# Altium footprint library Rich Footprints.PcbLib: 155 footprints (part 3 of 10)
Each footprint in its own frame and in the unit in brackets; x right, y up, seen from the top. Pads: shape width x height; smd on the part's side, far side on the other; paste and mask are expansions set on the pad; w line width, h text height; cw(c..) or ccw(c..) is an arc to the next point about the centre after c.
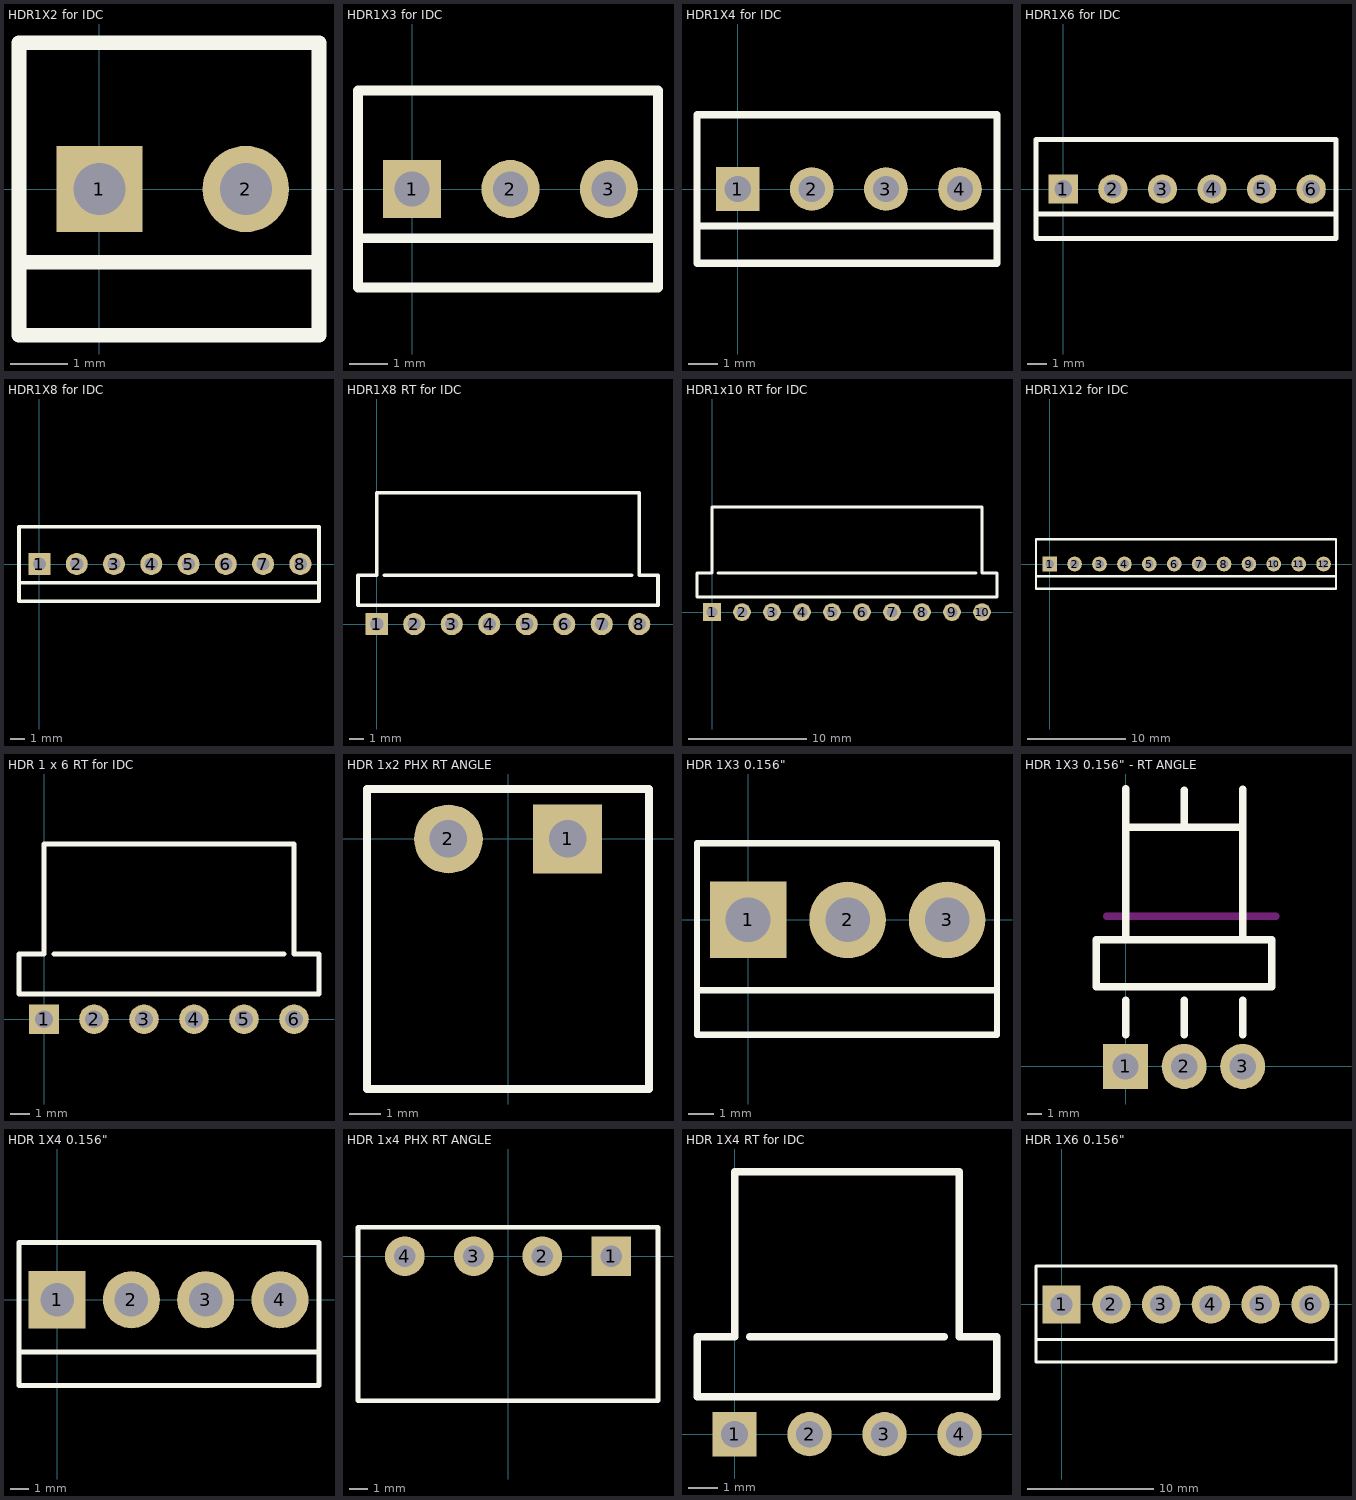
[diagram p2: the footprints below, top view; thin cyan lines are the x and y axes]

## HDR1X2 for IDC [mm] "Connector; Header; 4 Position"
pads (2):
  rect 1.5x1.5 hole 0.9: 1(0,0)
  round 1.5 hole 0.9: 2(2.54,0)
Top Overlay:
  lines w0.254: -1.397,-1.27 3.81,-1.27 ; -1.397,-2.54 3.81,-2.54 3.81,2.54 -1.397,2.54 -1.397,-2.54

## HDR1X3 for IDC [mm] "Connector; Header; 3 Position"
pads (3):
  rect 1.5x1.5 hole 0.9: 1(0,0)
  round 1.5 hole 0.9: 2(2.54,0) 3(5.08,0)
Top Overlay:
  lines w0.254: -1.397,-1.27 6.35,-1.27 ; -1.397,-2.54 6.35,-2.54 6.35,2.54 -1.397,2.54 -1.397,-2.54

## HDR1X4 for IDC [mm] "Connector; Header; 4 Position"
pads (4):
  rect 1.5x1.5 hole 0.9: 1(0,0)
  round 1.5 hole 0.9: 2(2.54,0) 3(5.08,0) 4(7.62,0)
Top Overlay:
  lines w0.254: -1.397,-1.27 8.89,-1.27 ; -1.397,-2.54 8.89,-2.54 8.89,2.54 -1.397,2.54 -1.397,-2.54

## HDR1X6 for IDC [mm] "Connector; Header; 6 Position"
pads (6):
  rect 1.5x1.5 hole 0.9: 1(0,0)
  round 1.5 hole 0.9: 2(2.54,0) 3(5.08,0) 4(7.62,0) 5(10.16,0) 6(12.7,0)
Top Overlay:
  lines w0.254: -1.397,-1.27 13.97,-1.27 ; -1.397,-2.54 -1.397,2.54 13.97,2.54 13.97,-2.54 -1.397,-2.54

## HDR1X8 for IDC [mm] "Connector; Header; 8 Position"
pads (8):
  rect 1.5x1.5 hole 0.9: 1(0,0)
  round 1.5 hole 0.9: 2(2.54,0) 3(5.08,0) 4(7.62,0) 5(10.16,0) 6(12.7,0) 7(15.24,0) 8(17.78,0)
Top Overlay:
  lines w0.254: -1.397,-1.27 19.05,-1.27 ; -1.397,-2.54 19.05,-2.54 19.05,2.54 -1.397,2.54 -1.397,-2.54

## HDR1X8 RT for IDC [mm] "Connector; Header; 8 Position, RT Angle"
pads (8):
  rect 1.5x1.5 hole 0.9: 1(0,0)
  round 1.5 hole 0.9: 2(2.54,0) 3(5.08,0) 4(7.62,0) 5(10.16,0) 6(12.7,0) 7(15.24,0) 8(17.78,0)
Top Overlay:
  lines w0.254: 0.508,3.302 17.272,3.302 ; -1.27,1.27 -1.27,3.302 0,3.302 0,8.89 17.78,8.89 17.78,3.302 19.05,3.302 19.05,1.27 17.78,1.27 -1.27,1.27

## HDR1x10 RT for IDC [mm]
pads (10):
  rect 1.5x1.5 hole 0.9: 1(0,0)
  round 1.5 hole 0.9: 2(2.54,0) 3(5.08,0) 4(7.62,0) 5(10.16,0) 6(12.7,0) 7(15.24,0) 8(17.78,0) 9(20.32,0) 10(22.86,0)
Top Overlay:
  lines w0.254: 0.508,3.302 22.352,3.302 ; -1.27,1.27 17.78,1.27 24.13,1.27 24.13,3.302 22.86,3.302 22.86,8.89 0,8.89 0,3.302 -1.27,3.302 -1.27,1.27

## HDR1X12 for IDC [mm] "Connector; Header; 12 Position"
pads (12):
  rect 1.5x1.5 hole 0.9: 1(0,0)
  round 1.5 hole 0.9: 2(2.54,0) 3(5.08,0) 4(7.62,0) 5(10.16,0) 6(12.7,0) 7(15.24,0) 8(17.78,0) 9(20.32,0) 10(22.86,0) 11(25.4,0) 12(27.94,0)
Top Overlay:
  lines w0.254: -1.397,-1.27 29.21,-1.27 ; -1.397,-2.54 29.21,-2.54 29.21,2.54 -1.397,2.54 -1.397,-2.54

## HDR 1 x 6 RT for IDC [mm]
pads (6):
  rect 1.5x1.5 hole 0.9: 1(0,0)
  round 1.5 hole 0.9: 2(2.54,0) 3(5.08,0) 4(7.62,0) 5(10.16,0) 6(12.7,0)
Top Overlay:
  lines w0.254: 0.508,3.302 12.192,3.302 ; -1.27,1.27 -1.27,3.302 0,3.302 0,8.89 12.7,8.89 12.7,3.302 13.97,3.302 13.97,1.27 -1.27,1.27

## HDR 1x2 PHX RT ANGLE [mm] "Phoenix 1803277"
pads (2):
  rect 2.2x2.2 hole 1.2: 1(1.905,0)
  round 2.2 hole 1.2: 2(-1.905,0)
Top Overlay:
  lines w0.254: -4.505,-8 -4.505,1.6 4.505,1.6 4.505,-8 -4.505,-8

## HDR 1X3 0.156" [mil] "Connector; Header; 3 Position"
pads (3):
  rect 120x120 hole 70: 1(0,0)
  round 120 hole 70: 2(156,0) 3(312,0)
Top Overlay:
  lines w10: -80,-110 390,-110 ; -80,-180 0,-180 380,-180 390,-180 390,-160 390,120 -80,120 -80,-180

## HDR 1X3 0.156" - RT ANGLE [mil] "Connector; Header; 3 Position, RT Angle"
pads (3):
  rect 120x120 hole 70: 1(0,0)
  round 120 hole 70: 2(156,0) 3(312,0)
Top Overlay:
  lines w20: -78,261 -78,212 ; 0,85 0,177 ; 0,739 0,339 0,636 1,637 312,637 312,338 312,738 ; 156,85 156,177 ; 156,637 156,736 ; 312,85 312,177 ; -78,212 390,212 390,337 -78,337 ; -78,212 -78,337 ; -78,212 -78,337
Keep-Out Layer:
  lines w20: -50,400 400,400

## HDR 1X4 0.156" [mil] "Connector; Header; 4 Position"
pads (4):
  rect 120x120 hole 70: 1(0,0)
  round 120 hole 70: 2(156,0) 3(312,0) 4(468,0)
Top Overlay:
  lines w10: -80,-110 550,-110 ; -80,-180 -80,120 550,120 550,0 550,-180 0,-180 -80,-180

## HDR 1x4 PHX RT ANGLE [mm] "Phoenix 1803293"
pads (4):
  rect 2.2x2.2 hole 1.2: 1(5.715,0)
  round 2.2 hole 1.2: 2(1.905,0) 3(-1.905,0) 4(-5.715,0)
Top Overlay:
  lines w0.254: -8.315,-8 8.315,-8 8.315,1.6 -8.315,1.6 -8.315,-8

## HDR 1X4 RT for IDC [mm] "Connector; Header; RT angle 4 Position"
pads (4):
  rect 1.5x1.5 hole 0.9: 1(0,0)
  round 1.5 hole 0.9: 2(2.54,0) 3(5.08,0) 4(7.62,0)
Top Overlay:
  lines w0.254: 0.508,3.302 7.112,3.302 ; -1.27,1.27 -1.27,3.302 0,3.302 0,8.89 7.62,8.89 7.62,3.302 8.89,3.302 8.89,1.27 -1.27,1.27

## HDR 1X6 0.156" [mil] "Connector; Header; 6 Position"
pads (6):
  rect 120x120 hole 70: 1(0,0)
  round 120 hole 70: 2(156,0) 3(312,0) 4(468,0) 5(624,0) 6(780,0)
Top Overlay:
  lines w10: -80,-110 860,-110 ; -80,-180 0,-180 860,-180 860,0 860,120 -80,120 -80,-180